# EAGLE library part MCP4725A0 (library FaBo-DAC)
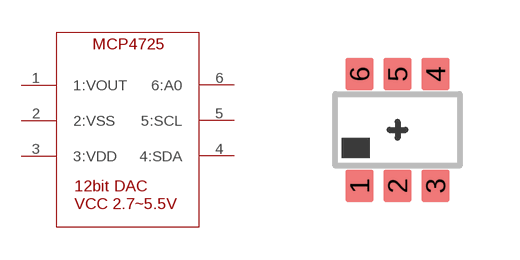
[diagram p0: symbol with the pads of SOT-23-6; footprint SOT-23-6]

Designator prefix -

## MCP4725A0  [SOT-23-6]
1  1:VOUT
2  2:VSS
3  3:VDD
4  4:SDA
5  5:SCL
6  6:A0

## Footprint SOT-23-6 (pad centres in mm)
smd 0.7 x 0.8: 1 -0.95,-1.4; 2 0,-1.4; 3 0.95,-1.4; 4 0.95,1.4; 5 0,1.4; 6 -0.95,1.4